# Altium footprint library LMP91000SD.PcbLib: 1 footprints
Each footprint in its own frame and in the unit in brackets; x right, y up, seen from the top. Pads: shape width x height; smd on the part's side, far side on the other; paste and mask are expansions set on the pad; w line width, h text height; cw(c..) or ccw(c..) is an arc to the next point about the centre after c.
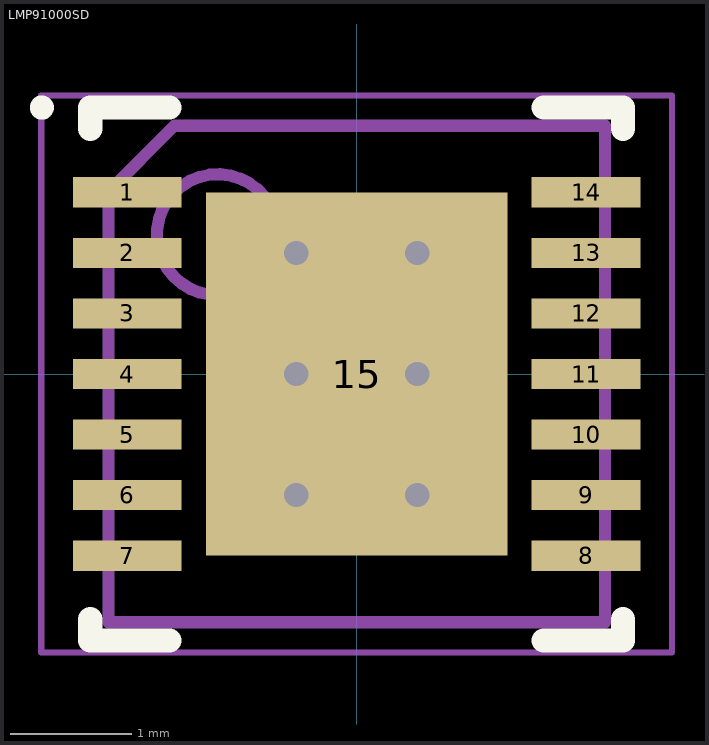
[diagram p0: the footprint, top view; thin cyan lines are the x and y axes]

## LMP91000SD [mm]
height 0.8
pads (15):
  rect 0.9x0.25 smd: 1(-1.895,1.5) 2(-1.895,1) 3(-1.895,0.5) 4(-1.895,0) 5(-1.895,-0.5) 6(-1.895,-1) 7(-1.895,-1.5) 8(1.895,-1.5) 9(1.895,-1) 10(1.895,-0.5) 11(1.895,0) 12(1.895,0.5) 13(1.895,1) 14(1.895,1.5)
  rect 2.49x3 smd paste-1.245: 15(0,0)
via -0.5,1 diameter 0.5 hole 0.2
via 0.5,1 diameter 0.5 hole 0.2
via -0.5,0 diameter 0.5 hole 0.2
via 0.5,0 diameter 0.5 hole 0.2
via -0.5,-1 diameter 0.5 hole 0.2
via 0.5,-1 diameter 0.5 hole 0.2
Top Overlay:
  circle w0.1: c-2.6,2.2 r0.05
  lines w0.2: -2.2,-2.025 -2.2,-2.2 -1.545,-2.2 ; -2.2,2.025 -2.2,2.2 -1.545,2.2 ; 1.545,-2.2 2.2,-2.2 2.2,-2.025 ; 1.545,2.2 2.2,2.2 2.2,2.025
Top Paste:
  rectangle: -1.15,0.1 -0.1,1.4
  rectangle: -1.15,-1.4 -0.1,-0.1
  rectangle: 0.1,0.1 1.15,1.4
  rectangle: 0.1,-1.4 1.15,-0.1
Mechanical 1:
  circle w0.1: c-1.15,1.15 r0.5
  lines w0.1: -2.05,-2.05 -2.05,1.506 -1.506,2.05 2.05,2.05 2.05,-2.05 -2.05,-2.05
  text ".Designator" at -3.294,-0.269 h0.65
Mechanical 2:
  lines w0.05: -2.605,-2.3 -2.605,2.3 2.605,2.3 2.605,-2.3 -2.605,-2.3
  lines w0.1: -0.5,0 0.5,0 ; 0,-0.5 0,0.5
3D body "LMP91000SD.step": height 0.8, standoff 0, extent -2.15,-2.05 2.15,2.05